# Altium footprint library STM32G4_DRV8301_hardware.PcbLib: 61 footprints (part 4 of 4)
Each footprint in its own frame and in the unit in brackets; x right, y up, seen from the top. Pads: shape width x height; smd on the part's side, far side on the other; paste and mask are expansions set on the pad; w line width, h text height; cw(c..) or ccw(c..) is an arc to the next point about the centre after c.
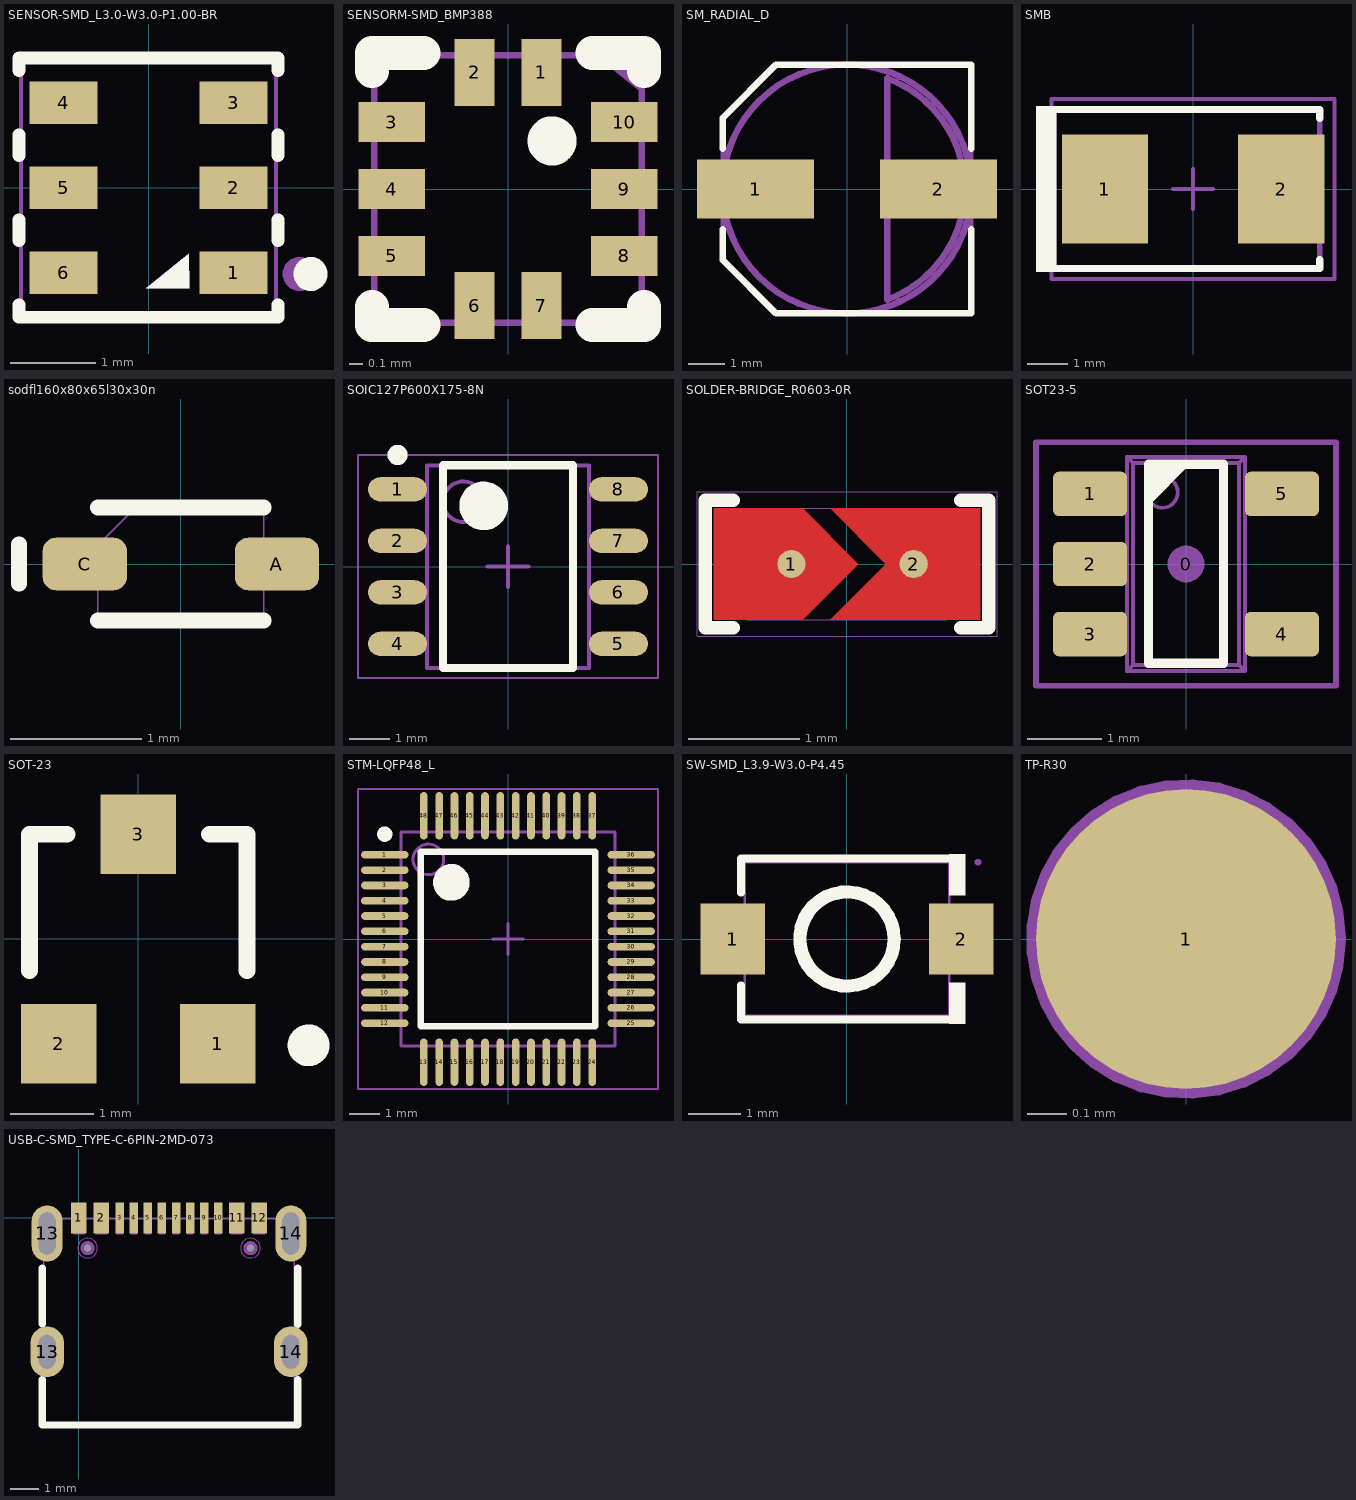
[diagram p3: the footprints below, top view; thin cyan lines are the x and y axes]

## SENSOR-SMD_L3.0-W3.0-P1.00-BR [mm]
pads (6):
  rect 0.8x0.5 smd paste+0 mask+0.05: 1(1,-1) 2(1,0) 3(1,1) 4(-1,1) 5(-1,0) 6(-1,-1)
Top Overlay:
  circle w0.2: c1.905,-1.016 r0.1
  region: -0.028,-1.186 0.481,-1.187 0.476,-0.78
  lines w0.15: -1.524,-1.378 -1.524,-1.524 1.524,-1.524 1.524,-1.378 ; -1.524,-0.622 -1.524,-0.378 ; -1.524,0.378 -1.524,0.622 ; -1.524,1.378 -1.524,1.524 1.524,1.524 1.524,1.378 ; 1.524,-0.622 1.524,-0.378 ; 1.524,0.378 1.524,0.622
Mechanical 6:
  circle w0.2: c1.778,-1.016 r0.1
  region: -0.032,-1.186 0.477,-1.187 0.472,-0.781
Mechanical 15:
  region: 1.56,-1.5 1.559,-1.476 1.524,-1.443 1.476,-1.443 1.441,-1.476 1.44,-1.5 1.441,-1.524 1.476,-1.557 1.524,-1.557 1.559,-1.524
  region: 1.275,0.8 0.725,0.8 0.725,1.2 1.275,1.2
  region: 1.275,-0.2 0.725,-0.2 0.725,0.2 1.275,0.2
  region: 1.275,-1.2 0.725,-1.2 0.725,-0.8 1.275,-0.8
  region: -0.725,-1.2 -1.275,-1.2 -1.275,-0.8 -0.725,-0.8
  region: -0.725,-0.2 -1.275,-0.2 -1.275,0.2 -0.725,0.2
  region: -0.725,0.8 -1.275,0.8 -1.275,1.2 -0.725,1.2
  lines w0.051: -1.5,-1.5 1.5,-1.5 1.5,1.5 -1.5,1.5 -1.5,-1.5

## SENSORM-SMD_BMP388 [mm]
pads (10):
  rect 0.3x0.5 smd paste+0 mask+0.05: 1(0.25,0.871) 2(-0.25,0.871) 6(-0.25,-0.871) 7(0.25,-0.871)
  rect 0.5x0.3 smd paste+0 mask+0.05: 3(-0.869,0.5) 4(-0.869,0) 5(-0.869,-0.5) 8(0.869,-0.5) 9(0.869,0) 10(0.869,0.5)
Top Overlay:
  circle w0.254: c0.33,0.359 r0.057
  lines w0.254: -1.016,-0.881 -1.016,-1.016 -0.631,-1.016 ; -1.016,0.881 -1.016,1.016 -0.631,1.016 ; 0.631,-1.016 1.016,-1.016 1.016,-0.881 ; 0.631,1.016 1.016,1.016 1.016,0.881
Mechanical 6:
  region: 0.655,0.995 1,0.72 1.001,0.997
Mechanical 15:
  region: 1.06,1 1.06,1.025 1.025,1.06 0.975,1.06 0.94,1.025 0.94,1 0.94,0.975 0.975,0.94 1.025,0.94 1.06,0.975
  region: 0.125,0.899 0.375,0.899 0.375,0.624 0.125,0.624
  region: -0.375,0.899 -0.125,0.899 -0.125,0.624 -0.375,0.624
  region: -0.622,0.622 -0.622,0.372 -0.897,0.372 -0.897,0.622
  region: -0.897,-0.127 -0.897,0.123 -0.622,0.123 -0.622,-0.127
  region: -0.897,-0.635 -0.897,-0.385 -0.622,-0.385 -0.622,-0.635
  region: -0.125,-0.9 -0.375,-0.9 -0.375,-0.625 -0.125,-0.625
  region: 0.375,-0.9 0.125,-0.9 0.125,-0.625 0.375,-0.625
  region: 0.899,-0.381 0.899,-0.631 0.624,-0.631 0.624,-0.381
  region: 0.899,0.122 0.899,-0.128 0.624,-0.128 0.624,0.122
  region: 0.899,0.625 0.899,0.375 0.624,0.375 0.624,0.625
  lines w0.051: -1,-1 -1,1 1,1 1,-1 -1,-1

## SM_RADIAL_D [mm]
pads (2):
  rect 3.2x1.6 smd: 1(-2.5,0) 2(2.5,0)
Top Overlay:
  lines w0.178: -3.398,-1.099 -3.398,-1.942 -1.94,-3.4 3.4,-3.4 3.4,-1.1 ; -3.398,1.099 -3.398,1.942 -1.94,3.4 3.4,3.4 3.4,1.1
Mechanical 5:
  lines w0.127: -3.398,-1.942 -3.398,1.942 -1.94,3.4 3.4,3.4 3.4,-3.4 -1.94,-3.4 -3.398,-1.942
  text ".Designator" at -1.524,-0.508 h1.5
Mechanical 13:
  circle w0.178: c0,0 r3.4
  lines w0.178: 1.1,-3.022 ccw(c0,0) 1.1,3.022 1.1,-3.022
3D body: height 6.1, standoff 0.6, extent -3.399,-3.399 3.399,3.399
3D body: height 6.1, standoff 6, extent 1.099,-3.022 3.216,3.022
3D body: height 0.6, standoff 0, extent -3.398,-3.401 3.401,3.401

## SMB [mm]
pads (2):
  rect 2.159x2.743 smd: 1(-2.21,0) 2(2.21,0)
Top Overlay:
  rectangle: -3.937,-2.083 -3.429,2.083
  lines w0.178: -3.607,-1.994 3.175,-1.994 3.175,-1.765 ; -3.607,1.994 3.175,1.994 3.175,1.765
Mechanical 5:
  rectangle: -3.937,-2.083 -3.429,2.083
  lines w0.127: -3.607,-1.994 3.175,-1.994 3.175,-1.765 3.175,1.765 3.175,1.994 -3.607,1.994
  text ".Designator" at -2.311,-0.508 h1.5
Mechanical 15:
  lines w0.1: -0.5,0 0.5,0 ; 0,-0.5 0,0.5 ; -3.55,-2.25 3.55,-2.25 3.55,2.25 -3.55,2.25 -3.55,-2.25
3D body "SMB_nominal.stp": height 2.32, standoff 0.02, extent -2.7,-1.8 2.7,1.8

## sodfl160x80x65l30x30n [mm]
pads (2):
  rrect50% 0.64x0.4 smd mask+0.05: A(0.73,0) C(-0.73,0)
Top Overlay:
  lines w0.12: -1.23,-0.15 -1.23,0.15 ; -0.63,-0.43 0.63,-0.43 ; -0.63,0.43 0.63,0.43
Mechanical 14:
  lines w0.01: -0.63,-0.43 -0.63,0.143 -0.343,0.43 0.63,0.43 0.63,-0.43 -0.63,-0.43
  text "'.Designator'" at 2,0.375 h1.5
  text "C" at -1.075,-0.25 h1.5
  text "A" at 0.65,-0.225 h1.5
3D body "SODFL1608X65.STEP": height 0.65, standoff 0, extent -0.8,-0.4 0.8,0.4

## SOIC127P600X175-8N [mm]
pads (8):
  oval 1.45x0.6 smd: 1(-2.725,1.905) 2(-2.725,0.635) 3(-2.725,-0.635) 4(-2.725,-1.905) 5(2.725,-1.905) 6(2.725,-0.635) 7(2.725,0.635) 8(2.725,1.905)
Top Overlay:
  circle w0.6: c-0.6,1.5 r0.3
  circle w0.25: c-2.725,2.755 r0.125
  lines w0.2: -1.6,-2.5 1.6,-2.5 1.6,2.5 -1.6,2.5 -1.6,-2.5
Mechanical 13:
  circle w0.1: c-1.1,1.6 r0.5
  lines w0.1: -2,-2.5 2,-2.5 2,2.5 -2,2.5 -2,-2.5
Mechanical 15:
  lines w0.05: -3.7,-2.75 3.7,-2.75 3.7,2.75 -3.7,2.75 -3.7,-2.75
  lines w0.1: -0.5,0 0.5,0 ; 0,-0.5 0,0.5
3D body: height 1.75, standoff 0.1, extent -2,-2.5 2,2.5

## SOLDER-BRIDGE_R0603-0R [mil]
pads (2):
  round 10 smd paste-393.7 mask+1.97: 1(-19.68,0) 2(23.62,0)
Top Layer:
  region: -47.24,-19.68 -47.24,19.68 -15.75,19.68 3.94,0 -15.75,-19.68
  region: -5.91,19.68 13.78,0 -5.91,-19.68 47.24,-19.68 47.24,19.68
Top Overlay:
  lines w4.72: -40.35,-22.64 -50.2,-22.64 -50.2,6.89 -50.2,22.64 -40.35,22.64 ; 40.35,-22.64 50.2,-22.64 50.2,22.64 40.35,22.64
Top Paste:
  rectangle: 14.95,-19.68 40.15,19.69
  rectangle: -40.15,-19.68 -14.95,19.69
Top Solder:
  region: -42.32,21.65 -14.76,21.65 6.89,0 -14.76,-21.65 -42.32,-21.65
  region: 10.83,0 -10.83,21.65 42.32,21.65 42.32,-21.65 -10.83,-21.65
Mechanical 14:
  lines w0.39: -35.43,-19.68 -35.43,19.68 35.43,19.68 35.43,-19.68 -35.43,-19.68
  text "'.Designator'" at -78.74,-19.68 h59.06
Mechanical 16:
  lines w0.39: -53.15,-25.59 -53.15,25.59 -7.87,25.59 53.15,25.59 53.15,-25.59 -53.15,-25.59
3D body "R0603.STEP": height 22.05, standoff 0, extent -33.46,-15.74 33.47,15.75
3D body: height 19.68, standoff 0, extent -35.63,-19.88 35.63,19.88

## SOT23-5 [mm]
pads (6):
  round 0.5 on Mech15: 0(0,0)
  rrect25% 1x0.6 smd: 1(-1.3,0.95) 2(-1.3,0) 3(-1.3,-0.95) 4(1.3,-0.95) 5(1.3,0.95)
Top Overlay:
  region: -0.508,1.353 0.053,1.353 -0.508,0.792
  lines w0.127: -0.508,-1.347 -0.508,1.353 0.508,1.353 0.508,-1.347 -0.508,-1.347
  text "." at -2.275,0.95 h1.5
Mechanical 13:
  circle w0.05: c-0.32,0.97 r0.208
  lines w0.05: -1.191,-1.15 -1.191,-0.75 ; -1.191,-0.2 -1.191,0.2 ; -1.191,0.75 -1.191,1.15 ; -1.1,-1.15 -1.1,-0.75 ; -1.1,-0.2 -1.1,0.2 ; -1.1,0.75 -1.1,1.15 ; -1.094,-1.15 -1.094,-0.75 ; -1.094,-0.2 -1.094,0.2 ; -1.094,0.75 -1.094,1.15 ; -0.844,-1.15 -0.844,-0.75 ; -0.844,-0.2 -0.844,0.2 ; -0.844,0.75 -0.844,1.15 ; -0.8,-1.15 -1.4,-1.15 -1.4,-0.75 -0.8,-0.75 ; -0.8,-0.2 -1.4,-0.2 -1.4,0.2 -0.8,0.2 ; -0.8,0.75 -1.4,0.75 -1.4,1.15 -0.8,1.15 ; 0.8,-1.15 1.4,-1.15 1.4,-0.75 0.8,-0.75 ; 0.8,0.75 1.4,0.75 1.4,1.15 0.8,1.15 ; 0.844,-1.15 0.844,-0.75 ; 0.844,0.75 0.844,1.15 ; 1.094,-1.15 1.094,-0.75 ; 1.094,0.75 1.094,1.15 ; 1.1,-1.15 1.1,-0.75 ; 1.1,0.75 1.1,1.15 ; 1.191,-1.15 1.191,-0.75 ; 1.191,0.75 1.191,1.15 ; -0.8,-1.45 -0.8,1.45 ; -0.8,-1.45 -0.719,-1.369 ; -0.8,-1.45 0.8,-1.45 ; -0.8,1.45 -0.719,1.369 ; -0.8,1.45 0.8,1.45 ; -0.719,-1.369 0.719,-1.369 ; -0.719,-1.369 -0.719,1.369 ; -0.719,1.369 0.719,1.369 ; 0.719,-1.369 0.8,-1.45 ; 0.719,-1.369 0.719,1.369 ; 0.719,1.369 0.8,1.45 ; 0.8,-1.45 0.8,1.45
Mechanical 15:
  lines w0.076: -2.032,-1.651 -2.032,1.651 2.032,1.651 2.032,-1.651 -2.032,-1.651
3D body "SOT23-5.STEP": height 1.44, standoff -0.01, extent -1.4,-1.45 1.4,1.45

## SOT-23 [mm]
pads (3):
  rect 0.9x0.95 smd: 1(0.95,-1.25) 2(-0.95,-1.25) 3(0,1.25)
Top Overlay:
  circle w0.25: c2.034,-1.27 r0.125
  lines w0.2: -1.3,-0.375 -1.3,1.25 -0.85,1.25 ; 0.85,1.25 1.3,1.25 1.3,-0.375

## STM-LQFP48_L [mm]
pads (48):
  oval 1.55x0.25 smd: 1(-4.025,2.75) 2(-4.025,2.25) 3(-4.025,1.75) 4(-4.025,1.25) 5(-4.025,0.75) 6(-4.025,0.25) 7(-4.025,-0.25) 8(-4.025,-0.75) 9(-4.025,-1.25) 10(-4.025,-1.75) 11(-4.025,-2.25) 12(-4.025,-2.75) 25(4.025,-2.75) 26(4.025,-2.25) 27(4.025,-1.75) 28(4.025,-1.25) 29(4.025,-0.75) 30(4.025,-0.25) 31(4.025,0.25) 32(4.025,0.75) 33(4.025,1.25) 34(4.025,1.75) 35(4.025,2.25) 36(4.025,2.75)
  oval 0.25x1.55 smd: 13(-2.75,-4.025) 14(-2.25,-4.025) 15(-1.75,-4.025) 16(-1.25,-4.025) 17(-0.75,-4.025) 18(-0.25,-4.025) 19(0.25,-4.025) 20(0.75,-4.025) 21(1.25,-4.025) 22(1.75,-4.025) 23(2.25,-4.025) 24(2.75,-4.025) 37(2.75,4.025) 38(2.25,4.025) 39(1.75,4.025) 40(1.25,4.025) 41(0.75,4.025) 42(0.25,4.025) 43(-0.25,4.025) 44(-0.75,4.025) 45(-1.25,4.025) 46(-1.75,4.025) 47(-2.25,4.025) 48(-2.75,4.025)
Top Overlay:
  circle w0.6: c-1.85,1.85 r0.3
  circle w0.25: c-4.025,3.425 r0.125
  lines w0.2: -2.85,-2.85 2.85,-2.85 2.85,2.85 -2.85,2.85 -2.85,-2.85
Mechanical 13:
  circle w0.1: c-2.6,2.6 r0.5
  lines w0.1: -3.5,-3.5 3.5,-3.5 3.5,3.5 -3.5,3.5 -3.5,-3.5
Mechanical 15:
  lines w0.05: -4.9,-4.9 4.9,-4.9 4.9,4.9 -4.9,4.9 -4.9,-4.9
  lines w0.1: -0.5,0 0.5,0 ; 0,-0.5 0,0.5
3D body: height 1.6, standoff 0.05, extent -3.5,-3.5 3.5,3.5

## SW-SMD_L3.9-W3.0-P4.45 [mm]
pads (2):
  rect 1.23x1.36 smd: 1(-2.185,0) 2(2.185,0)
Top Overlay:
  circle w0.254: c0,0 r0.9
  region: 1.95,1.617 1.95,0.832 2.255,0.832 2.255,1.617
  region: 1.95,-1.617 1.95,-0.832 2.255,-0.832 2.255,-1.617
  lines w0.152: -2.026,-0.883 -2.026,-1.541 2.026,-1.541 ; -2.026,0.883 -2.026,1.541 2.026,1.541
Mechanical 15:
  region: 2.56,1.465 2.56,1.49 2.525,1.525 2.475,1.525 2.44,1.49 2.44,1.465 2.44,1.44 2.475,1.405 2.525,1.405 2.56,1.44
  region: -2.5,0.65 -2.5,-0.65 -1.6,-0.65 -1.6,0.65
  region: 2.5,0.65 2.5,-0.65 1.6,-0.65 1.6,0.65
  lines w0.051: -1.95,-1.465 -1.95,1.465 1.95,1.465 1.95,-1.465 -1.95,-1.465

## TP-R30 [mil]
pads (1):
  round 30 smd paste-30 mask+3: 1(0,0)
Mechanical 13:
  circle w1.97: c0,0 r15
3D body: height 10, standoff 0, extent -17.86,-17.96 18,17.97

## USB-C-SMD_TYPE-C-6PIN-2MD-073 [mm]
pads (16):
  rect 0.55x1.1 smd paste-100 mask+0.05: 1(0,0) 2(0.8,0) 11(5.6,0) 12(6.4,0)
  rect 0.3x1.1 smd paste-100 mask+0.05: 3(1.45,0) 4(1.95,0) 5(2.45,0) 6(2.95,0) 7(3.45,0) 8(3.95,0) 9(4.45,0) 10(4.95,0)
  oval 1.1x2 hole 0.6 slot 1.5 at 90 deg paste-2539.97 mask+0.05: 13(-1.125,-0.55) 14(7.525,-0.55)
  oval 1.2x1.8 hole 0.6 slot 1.2 at 90 deg paste-2539.97 mask+0.05: 13(-1.125,-4.75) 14(7.525,-4.75)
via 0.31,-1.07 diameter 0.25 hole 0.25
via 6.09,-1.07 diameter 0.25 hole 0.25
Top Overlay:
  lines w0.254: -1.3,-5.731 -1.3,-7.35 7.772,-7.35 7.772,-5.728 ; -1.3,-3.769 -1.3,-1.781 ; 7.772,-3.772 7.772,-1.778
Top Paste:
  drawing of 16 lines, arcs and shapes, not listed
Mechanical 1:
  circle w0.025: c6.09,-1.07 r0.35
  circle w0.025: c0.31,-1.07 r0.35
Mechanical 6:
  circle w0.25: c6.09,-1.07 r0.125
  circle w0.25: c0.31,-1.07 r0.125
Mechanical 15:
  region: 7.4,-4.4 7.65,-4.4 7.65,-5.1 7.4,-5.1
  region: -1.25,-4.4 -1,-4.4 -1,-5.1 -1.25,-5.1
  region: 7.4,-0.026 7.65,-0.026 7.65,-1.126 7.4,-1.126
  region: -1.25,-0.026 -1,-0.026 -1,-1.126 -1.25,-1.126
  region: 6.2,0.274 6.6,0.274 6.6,-0.576 6.2,-0.576
  region: 5.4,0.274 5.8,0.274 5.8,-0.576 5.4,-0.576
  region: 0.6,0.274 1,0.274 1,-0.576 0.6,-0.576
  region: -0.2,0.274 0.2,0.274 0.2,-0.576 -0.2,-0.576
  region: 4.85,0.274 5.05,0.274 5.05,-0.576 4.85,-0.576
  region: 4.35,0.274 4.55,0.274 4.55,-0.576 4.35,-0.576
  region: 3.85,0.274 4.05,0.274 4.05,-0.576 3.85,-0.576
  region: 3.35,0.274 3.55,0.274 3.55,-0.576 3.35,-0.576
  region: 2.85,0.274 3.05,0.274 3.05,-0.576 2.85,-0.576
  region: 1.85,0.274 2.05,0.274 2.05,-0.576 1.85,-0.576
  region: 2.35,0.274 2.55,0.274 2.55,-0.576 2.35,-0.576
  region: 1.35,0.274 1.55,0.274 1.55,-0.576 1.35,-0.576
  region: -1.19,0.274 -1.19,0.299 -1.225,0.334 -1.275,0.334 -1.31,0.299 -1.31,0.274 -1.31,0.249 -1.275,0.214 -1.225,0.214 -1.19,0.249
  lines w0.051: -1.25,-7.366 -1.25,-0.026 7.65,-0.026 7.65,-7.366 -1.25,-7.366